# EAGLE library part I/O_MODULE_V1.0 (library gainer)
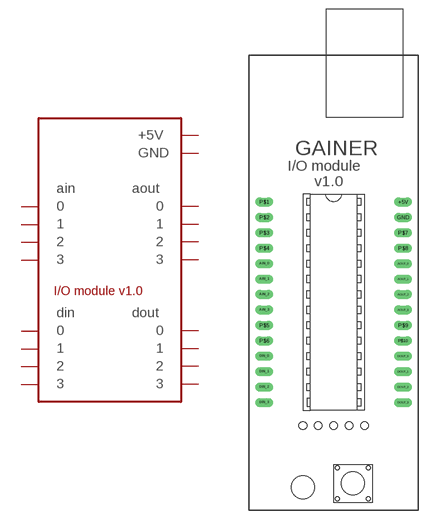
[diagram p0: symbol with the pads of I/O_MODULE_V1.0; footprint I/O_MODULE_V1.0]

Designator prefix MODULE

## I/O_MODULE_V1.0  [I/O_MODULE_V1.0]
+5V  +5V  pwr
AIN_0  AIN_0
AIN_1  AIN_1
AIN_2  AIN_2
AIN_3  AIN_3
AOUT_0  AOUT_0
AOUT_1  AOUT_1
AOUT_2  AOUT_2
AOUT_3  AOUT_3
DIN_0  DIN_0
DIN_1  DIN_1
DIN_2  DIN_2
DIN_3  DIN_3
DOUT_0  DOUT_0
DOUT_1  DOUT_1
DOUT_2  DOUT_2
DOUT_3  DOUT_3
GND  GND  pwr

## Footprint I/O_MODULE_V1.0 (pad centres in mm)
drill 1 long: +5V 11.43,10.16; AIN_0 -11.43,0; AIN_1 -11.43,-2.54; AIN_2 -11.43,-5.08; AIN_3 -11.43,-7.62; AOUT_0 11.43,0; AOUT_1 11.43,-2.54; AOUT_2 11.43,-5.08; AOUT_3 11.43,-7.62; DIN_0 -11.43,-15.24; DIN_1 -11.43,-17.78; DIN_2 -11.43,-20.32; DIN_3 -11.43,-22.86; DOUT_0 11.43,-15.24; DOUT_1 11.43,-17.78; DOUT_2 11.43,-20.32; DOUT_3 11.43,-22.86; GND 11.43,7.62; P$1 -11.43,10.16; P$2 -11.43,7.62; P$3 -11.43,5.08; P$4 -11.43,2.54; P$5 -11.43,-10.16; P$6 -11.43,-12.7; P$7 11.43,5.08; P$8 11.43,2.54; P$9 11.43,-10.16; P$10 11.43,-12.7